# Altium schematic symbol library Detectors.SchLib: 109 symbols (part 5 of 5)
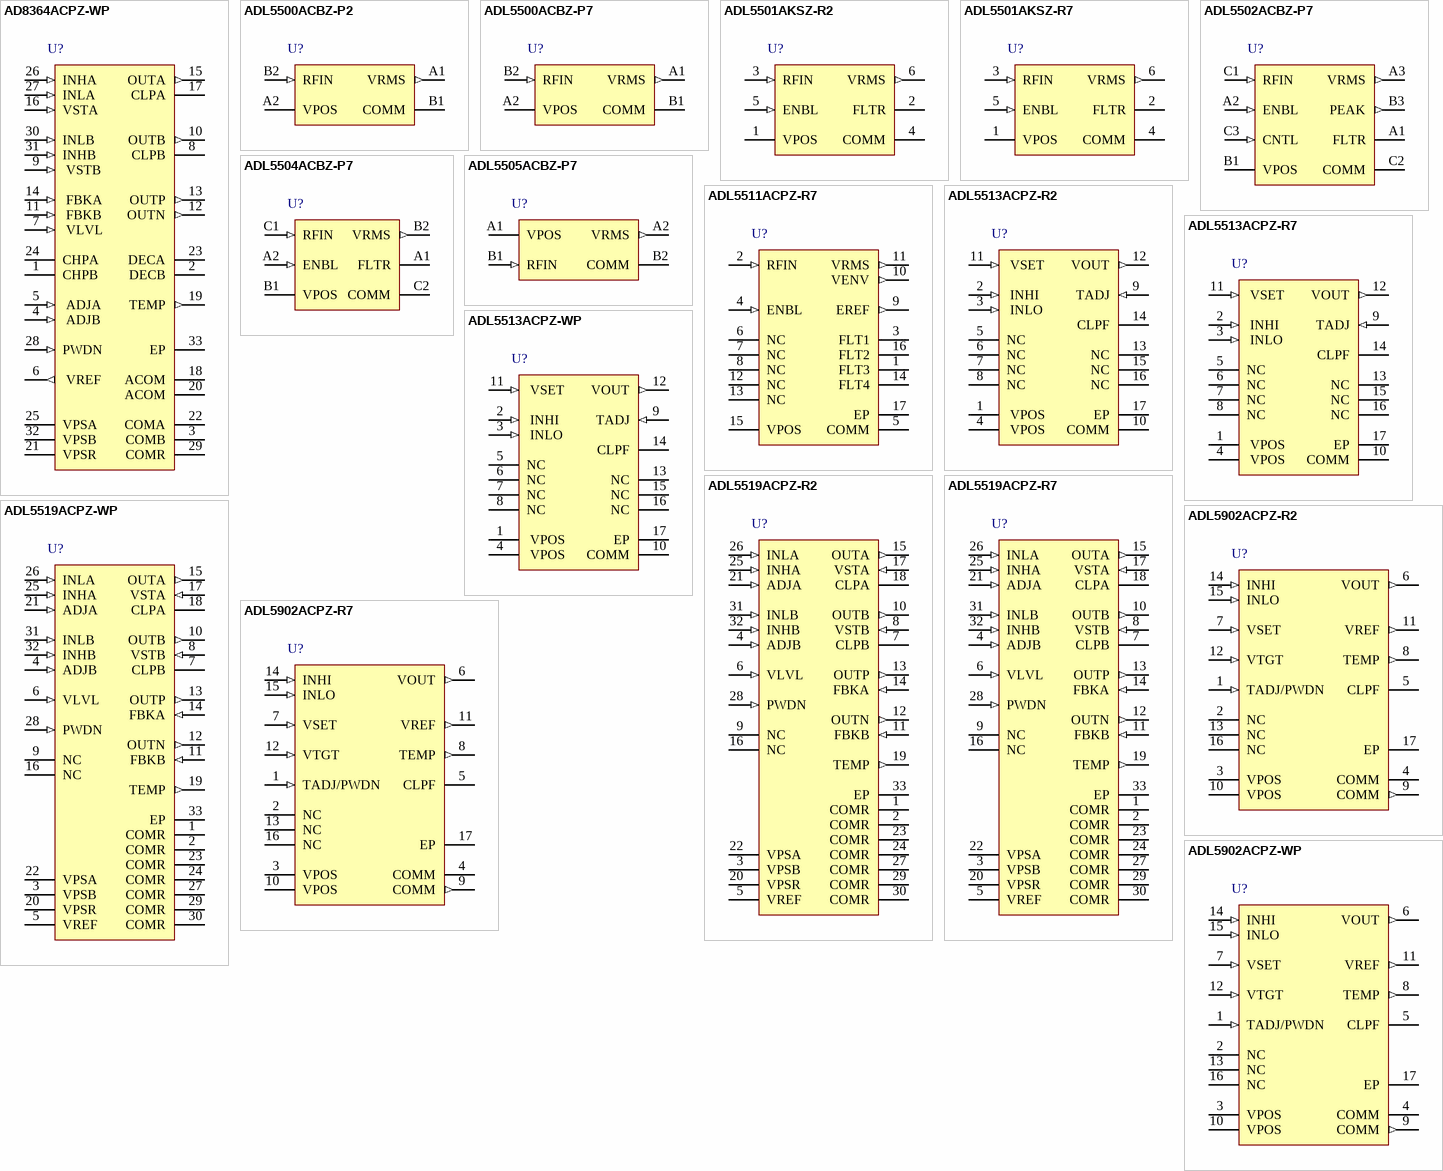
[diagram p7: symbols AD8364ACPZ-WP to ADL5902ACPZ-WP]

## ADL5502ACBZ-P7
designator U?
450 MHz to 6000 MHz Crest Factor Detector, 15µs Response Time, CB-8-3, Pb-Free, 3000 Reel; Product Description: Crest Factor Detector, Improved RMS Performance; RF Frequency (MHz): 6GHz; Dynamic Range (dB): 30dB; Temp Stability (dB): 250mdB; Voltage Supply (V): 2.5 to 3.3; Supply Current: 3mA; Output Response: Linear in Voltage; DatasheetVersion: Rev. A; PackageVersion: 102208-A; PackageReference: CB-8-3; PackageDescription: 8-Ball Wafer Level Chip Scale Package [WLCSP]; Response Time (ns typ): 15µs; ComponentLink1Description: Manufacturer URL; ComponentLink1URL: www.analog.com; ComponentLink2Description: Datasheet; ComponentLink2URL: http://www.analog.com/static/imported-files/data_sheets/ADL5502.pdf; ComponentLink3Description: Package Specification; ComponentLink3URL: http://www.analog.com/static/imported-files/packages/PKG_PDF/WLCSP(CB)/CB_8_3.pdf
footprint ADI-CB-8-3 (BGA, 8-Leads, Body 1.46x1.46mm, Pitch 0.5mm)
pins: A1 FLTR "Modulation Filter Pin. Connection for an external capacitor to lower the corner frequency of the modulation filter.", A2 ENBL (in) "Enable Pin. Connect pin to VS for normal operation. Connect pin to ground for disable mode.", A3 VRMS (out) "RMS Output Pin. Rail-to-rail voltage output with limited current drive capability. The output has an internal 100 O series resistance. High resistive loads and low capacitance loads are recommended to preserve output swing and allow fast response.", B1 VPOS (power) "Supply Voltage Pin. Operational range 2.5 V to 3.3 V.", B3 PEAK (out) "Envelope Peak Output. Voltage output for peak-hold function, with limited current drive capability. The output has an internal 100 O series resistance. Low capacitance loads are recommended to allow for envelope tracking and fast response time.", C1 RFIN (in) "Signal Input Pin. Internally ac-coupled after internal termination resistance. Nominal 500 ohm input impedance.", C2 COMM (power) "Device Ground Pin.", C3 CNTL (in) "Control Pin. Connect pin to ground for peak-hold mode. Connect pin to VS for reset mode (tracking envelope). To measure the peak of a waveform, the control pin must be briefly set to high (reset mode for >1 us) to start at a known state."

## ADL5504ACBZ-P7
designator U?
450 MHz to 6000 MHzTruPwr Detector, 3µs Response Time, CB-6-8, Pb-Free, 3000 Reel; Product Description: Improved RMS Performance, Reduced Size; RF Frequency (MHz): 6GHz; Dynamic Range (dB): 30dB; Temp Stability (dB): 250mdB; Voltage Supply (V): 2.5 to 3.3; Supply Current: 1.8mA; Output Response: Linear in Voltage; DatasheetVersion: Rev. A; PackageVersion: 081709-A; PackageReference: CB-6-8; PackageDescription: 6-Ball Wafer Level Chip Scale Package [WLCSP]; Response Time (ns typ): 3µs; ComponentLink1Description: Manufacturer URL; ComponentLink1URL: www.analog.com; ComponentLink2Description: Datasheet; ComponentLink2URL: http://www.analog.com/static/imported-files/data_sheets/ADL5504.pdf; ComponentLink3Description: Package Specification; ComponentLink3URL: http://www.analog.com/static/imported-files/packages/PKG_PDF/WLCSP(CB)/CB_6_8.pdf
footprint ADI-CB-6-8 (BGA, 6-Leads, Body 1.4x1mm, Pitch 0.4mm)
pins: A1 FLTR "Modulation Filter. Connect an external capacitor to this pin to lower the corner frequency of the modulation filter.", A2 ENBL (in) "Enable. Connect this pin to VS for normal operation. Connect this pin to ground for disable mode.", B1 VPOS (power) "Supply Voltage.", B2 VRMS (out) "RMS Output. This pin is a rail-to-rail voltage output with limited current drive capability. The output has an internal 100 ohm series resistance. High resistive loads and low capacitance loads are recommended to preserve output swing and allow fast resp", C1 RFIN (in) "Signal Input. This pin is internally ac-coupled after internal termination resistance. The nominal input impedance is 500 ohm.", C2 COMM (power) "Device Ground."

## ADL5505ACBZ-P7
designator U?
450 MHz to 6000 MHzTruPwr Detector, 3µs Response Time, CB-4-6, Pb-Free, 3000 Reel; Product Description: Improved RMS Performance, Reduced Size; RF Frequency (MHz): 6GHz; Dynamic Range (dB): 30dB; Temp Stability (dB): 250mdB; Voltage Supply (V): 2.5 to 3.3; Supply Current: 1.8mA; Output Response: Linear in Voltage; DatasheetVersion: Rev. A; PackageVersion: 2011; PackageReference: CB-4-6; PackageDescription: 4-Ball Wafer Level Chip Scale Package [WLCSP]; Response Time (ns typ): 3µs; ComponentLink1Description: Manufacturer URL; ComponentLink1URL: www.analog.com; ComponentLink2Description: Datasheet; ComponentLink2URL: http://www.analog.com/static/imported-files/data_sheets/ADL5505.pdf; ComponentLink3Description: Package Specification; ComponentLink3URL: http://www.analog.com/static/imported-files/data_sheets/ADL5505.pdf
footprint ADI-CB-4-6 (BGA, 4-Leads, Body 0.79x0.79mm, Pitch 0.4mm)
pins: A1 VPOS (power) "Supply Voltage. The operational range is 2.5 V to 3.3 V.", A2 VRMS (out) "RMS Output. This pin is a rail-to-rail voltage output with limited current drive capability. The output has an internal 100 ohm series resistance. High resistive loads and low capacitance loads are recommended to preserve output swing and allow fast resp", B1 RFIN (in) "Signal Input. This pin is internally ac-coupled after internal termination resistance. The nominal input impedance is 500.", B2 COMM (power) "Device Ground."

## ADL5511ACPZ-R7
designator U?
DC to 6 GHz Envelope and TruPwr RMS Detector, CP-16-22, Pb-Free, 54 Tube; Product Description: Crest factor detector with rms and envelope outputs; RF Frequency (MHz): 6GHz; Dynamic Range (dB): 47dB; Temp Stability (dB): 250mdB; Response Time (ns typ): 10µs; Voltage Supply (V): 4.75 to 5.25; Supply Current: 21.5mA; Output Response: Linear in Voltage; DatasheetVersion: Rev. 0; PackageVersion: 111808-A; PackageReference: CP-16-22; PackageDescription: 16-Lead Lead Frame Chip Scale Package [LFCSP_WQ]; Code_JEDEC: MO-220-WEED; ComponentLink1Description: Manufacturer URL; ComponentLink1URL: www.analog.com; ComponentLink2Description: Datasheet; ComponentLink2URL: http://www.analog.com/static/imported-files/data_sheets/ADL5511.pdf; ComponentLink3Description: Package Specification; ComponentLink3URL: http://www.analog.com/static/imported-files/packages/PKG_PDF/LFCSP(CP)/CP-16/CP_16_22.pdf
footprint ADI-CP-16-22_N (QFN, 16-Leads, Body 3x3mm, Pitch 0.5mm, Thermal Pad 1.75x1.75mm, IPC Medium Density)
footprint ADI-CP-16-22_L (QFN, 16-Leads, Body 3x3mm, Pitch 0.5mm, Thermal Pad 1.75x1.75mm, IPC High Density)
footprint ADI-CP-16-22_M (QFN, 16-Leads, Body 3x3mm, Pitch 0.5mm, Thermal Pad 1.75x1.75mm, IPC Low Density)
pins: 1 FLT3 "External Envelope Filter. [see datasheet]", 2 RFIN (in) "RF Input. RFIN should be externally ac-coupled. RFIN has a nominal input impedance of 250 Ohm. [see datasheet]", 3 FLT1 "External Envelope Filter. A capacitor to ground on this pin can be used to reduce the nominal minimum input frequency. The capacitance on this pin helps to reduce any residual RF carrier presence on the EREF output pin. [see datasheet]", 4 ENBL (in) "Device Enable/Disable. A logic high on this pin enables the device. A logic low on this pin disables the device.", 5 COMM (power) "Device Ground. Connect to a low impedance ground plane.", 6 NC "Do not connect to these pins.", 7 NC "Do not connect to these pins.", 8 NC "Do not connect to these pins.", 9 EREF (out) "Reference Voltage for Envelope Output. The nominal value is 1.1 V.", 10 VENV (out) "Envelope Output. The voltage on this pin represents the envelope of the input signal and is referred to EREF. VENV can source a current of up to 15 mA. Capacitive loading should not exceed 10 pF to achieve the specified envelope bandwidth. [see datasheet", 11 VRMS (out) "RMS Output Pin. This voltage is ground referenced and has a nominal swing of 0 V to 3.8 V. VRMS has a linear- in-V/V transfer function with a nominal slope of 2 V/V.", 12 NC "Do not connect to these pins.", 13 NC "Do not connect to these pins.", 14 FLT4 "RMS Averaging Capacitor. Connect between FLT4 and VPOS.", 15 VPOS (power) "Supply Voltage Pin. Operational range is 4.75 V to 5.25 V with a supply current of 21.5 mA.", 16 FLT2 "External Envelope Filter. [see datasheet]", 17 EP (power) "Exposed Pad. The exposed pad should be connected to both thermal and electrical grounds."

## ADL5513ACPZ-R2
designator U?
1 MHz to 4 GHz, 80 dB Logarithmic Detector/Controller, 20ns Response Time, CP-16-3, Pb-Free, 250 Reel; Product Description: 125°C Operation, Broadband; RF Frequency (MHz): 1 to 4000; Dynamic Range (dB): 80dB; Temp Stability (dB): 500mdB; Voltage Supply (V): 2.7 to 5.5; Supply Current: 31mA; DatasheetVersion: Rev. 0; PackageVersion: Jan-2005; PackageReference: CP-16-3; PackageDescription: 16-Lead Lead Frame Chip Scale Package [LFCSP_VQ]; Response Time (ns typ): 20ns; Code_JEDEC: MO-220-VEED-2; ComponentLink1Description: Manufacturer URL; ComponentLink1URL: www.analog.com; ComponentLink2Description: Datasheet; ComponentLink2URL: http://www.analog.com/static/imported-files/data_sheets/ADL5513.pdf; ComponentLink3Description: Package Specification; ComponentLink3URL: http://www.analog.com/static/imported-files/packages/PKG_PDF/LFCSP(CP)/CP_16_3.pdf
footprint ADI-CP-16-3_N (QFN, 16-Leads, Body 3x3mm, Pitch 0.5mm, Thermal Pad 1.5x1.5mm, IPC Medium Density)
footprint ADI-CP-16-3_L (QFN, 16-Leads, Body 3x3mm, Pitch 0.5mm, Thermal Pad 1.5x1.5mm, IPC High Density)
footprint ADI-CP-16-3_M (QFN, 16-Leads, Body 3x3mm, Pitch 0.5mm, Thermal Pad 1.5x1.5mm, IPC Low Density)
pins: 1  VPOS (power) "Positive Supply Voltage, 2.7 V to 5.5 V", 2  INHI (in) "RF Input. AC-coupled RF input", 3  INLO (in) "RF Common for INHI. AC-coupled RF common.", 4  VPOS (power) "Positive Supply Voltage, 2.7 V to 5.5 V", 5 NC "No Connect. These pins can be left open or be soldered to a low impedance ground plane.", 6 NC "No Connect. These pins can be left open or be soldered to a low impedance ground plane.", 7 NC "No Connect. These pins can be left open or be soldered to a low impedance ground plane.", 8 NC "No Connect. These pins can be left open or be soldered to a low impedance ground plane.", 9  TADJ (in) "Temperature Compensation Adjustment. Frequency-dependent temperature compensation is set by applying a specified voltage to the pin. The TADJ pin has dual functionality  as a power-down pin, PWDN. Applying a voltage of VPOS - 0.3 V disables the device.", 10  COMM (power) "Device Common.", 11  VSET (in) "Setpoint Input for Operation in Controller Mode. To operate in RSSI mode short VSET to VOUT.", 12  VOUT (out) "Logarithmic/Error Output.", 13 NC "No Connect. These pins can be left open or be soldered to a low impedance ground plane.", 14  CLPF "Loop Filter Capacitor Pin. In measurement mode, this capacitor pin sets the pulse response time and video bandwidth. In controller mode, the capacitance on this node sets the response time of the error amplifier/integrator.", 15 NC "No Connect. These pins can be left open or be soldered to a low impedance ground plane.", 16 NC "No Connect. These pins can be left open or be soldered to a low impedance ground plane.", 17 EP (power) "Internally connected to COMM; solder to a low impedance ground plane."

## ADL5513ACPZ-R7
designator U?
1 MHz to 4 GHz, 80 dB Logarithmic Detector/Controller, 20ns Response Time, CP-16-3, Pb-Free, 1500 Reel; Product Description: 125°C Operation, Broadband; RF Frequency (MHz): 1 to 4000; Dynamic Range (dB): 80dB; Temp Stability (dB): 500mdB; Voltage Supply (V): 2.7 to 5.5; Supply Current: 31mA; DatasheetVersion: Rev. 0; PackageVersion: Jan-2005; PackageReference: CP-16-3; PackageDescription: 16-Lead Lead Frame Chip Scale Package [LFCSP_VQ]; Response Time (ns typ): 20ns; Code_JEDEC: MO-220-VEED-2; ComponentLink1Description: Manufacturer URL; ComponentLink1URL: www.analog.com; ComponentLink2Description: Datasheet; ComponentLink2URL: http://www.analog.com/static/imported-files/data_sheets/ADL5513.pdf; ComponentLink3Description: Package Specification; ComponentLink3URL: http://www.analog.com/static/imported-files/packages/PKG_PDF/LFCSP(CP)/CP_16_3.pdf
footprint ADI-CP-16-3_N (QFN, 16-Leads, Body 3x3mm, Pitch 0.5mm, Thermal Pad 1.5x1.5mm, IPC Medium Density)
footprint ADI-CP-16-3_L (QFN, 16-Leads, Body 3x3mm, Pitch 0.5mm, Thermal Pad 1.5x1.5mm, IPC High Density)
footprint ADI-CP-16-3_M (QFN, 16-Leads, Body 3x3mm, Pitch 0.5mm, Thermal Pad 1.5x1.5mm, IPC Low Density)
pins: 1  VPOS (power) "Positive Supply Voltage, 2.7 V to 5.5 V", 2  INHI (in) "RF Input. AC-coupled RF input", 3  INLO (in) "RF Common for INHI. AC-coupled RF common.", 4  VPOS (power) "Positive Supply Voltage, 2.7 V to 5.5 V", 5 NC "No Connect. These pins can be left open or be soldered to a low impedance ground plane.", 6 NC "No Connect. These pins can be left open or be soldered to a low impedance ground plane.", 7 NC "No Connect. These pins can be left open or be soldered to a low impedance ground plane.", 8 NC "No Connect. These pins can be left open or be soldered to a low impedance ground plane.", 9  TADJ (in) "Temperature Compensation Adjustment. Frequency-dependent temperature compensation is set by applying a specified voltage to the pin. The TADJ pin has dual functionality  as a power-down pin, PWDN. Applying a voltage of VPOS - 0.3 V disables the device.", 10  COMM (power) "Device Common.", 11  VSET (in) "Setpoint Input for Operation in Controller Mode. To operate in RSSI mode short VSET to VOUT.", 12  VOUT (out) "Logarithmic/Error Output.", 13 NC "No Connect. These pins can be left open or be soldered to a low impedance ground plane.", 14  CLPF "Loop Filter Capacitor Pin. In measurement mode, this capacitor pin sets the pulse response time and video bandwidth. In controller mode, the capacitance on this node sets the response time of the error amplifier/integrator.", 15 NC "No Connect. These pins can be left open or be soldered to a low impedance ground plane.", 16 NC "No Connect. These pins can be left open or be soldered to a low impedance ground plane.", 17 EP (power) "Internally connected to COMM; solder to a low impedance ground plane."

## ADL5513ACPZ-WP
designator U?
1 MHz to 4 GHz, 80 dB Logarithmic Detector/Controller, 20ns Response Time, CP-16-3, Pb-Free, 50 Tray; Product Description: 125°C Operation, Broadband; RF Frequency (MHz): 1 to 4000; Dynamic Range (dB): 80dB; Temp Stability (dB): 500mdB; Voltage Supply (V): 2.7 to 5.5; Supply Current: 31mA; DatasheetVersion: Rev. 0; PackageVersion: Jan-2005; PackageReference: CP-16-3; PackageDescription: 16-Lead Lead Frame Chip Scale Package [LFCSP_VQ]; Response Time (ns typ): 20ns; Code_JEDEC: MO-220-VEED-2; ComponentLink1Description: Manufacturer URL; ComponentLink1URL: www.analog.com; ComponentLink2Description: Datasheet; ComponentLink2URL: http://www.analog.com/static/imported-files/data_sheets/ADL5513.pdf; ComponentLink3Description: Package Specification; ComponentLink3URL: http://www.analog.com/static/imported-files/packages/PKG_PDF/LFCSP(CP)/CP_16_3.pdf
footprint ADI-CP-16-3_N (QFN, 16-Leads, Body 3x3mm, Pitch 0.5mm, Thermal Pad 1.5x1.5mm, IPC Medium Density)
footprint ADI-CP-16-3_L (QFN, 16-Leads, Body 3x3mm, Pitch 0.5mm, Thermal Pad 1.5x1.5mm, IPC High Density)
footprint ADI-CP-16-3_M (QFN, 16-Leads, Body 3x3mm, Pitch 0.5mm, Thermal Pad 1.5x1.5mm, IPC Low Density)
pins: 1  VPOS (power) "Positive Supply Voltage, 2.7 V to 5.5 V", 2  INHI (in) "RF Input. AC-coupled RF input", 3  INLO (in) "RF Common for INHI. AC-coupled RF common.", 4  VPOS (power) "Positive Supply Voltage, 2.7 V to 5.5 V", 5 NC "No Connect. These pins can be left open or be soldered to a low impedance ground plane.", 6 NC "No Connect. These pins can be left open or be soldered to a low impedance ground plane.", 7 NC "No Connect. These pins can be left open or be soldered to a low impedance ground plane.", 8 NC "No Connect. These pins can be left open or be soldered to a low impedance ground plane.", 9  TADJ (in) "Temperature Compensation Adjustment. Frequency-dependent temperature compensation is set by applying a specified voltage to the pin. The TADJ pin has dual functionality  as a power-down pin, PWDN. Applying a voltage of VPOS - 0.3 V disables the device.", 10  COMM (power) "Device Common.", 11  VSET (in) "Setpoint Input for Operation in Controller Mode. To operate in RSSI mode short VSET to VOUT.", 12  VOUT (out) "Logarithmic/Error Output.", 13 NC "No Connect. These pins can be left open or be soldered to a low impedance ground plane.", 14  CLPF "Loop Filter Capacitor Pin. In measurement mode, this capacitor pin sets the pulse response time and video bandwidth. In controller mode, the capacitance on this node sets the response time of the error amplifier/integrator.", 15 NC "No Connect. These pins can be left open or be soldered to a low impedance ground plane.", 16 NC "No Connect. These pins can be left open or be soldered to a low impedance ground plane.", 17 EP (power) "Internally connected to COMM; solder to a low impedance ground plane."

## ADL5519ACPZ-R2
designator U?
1 MHz to 10 GHz, 62 dB Dual Log Detector/Controller, 6ns Response Time, CP-32-8, Pb-Free, 250 Reel; Product Description: Dual-Channel AD8317; RF Frequency (MHz): 1 to 10000; Dynamic Range (dB): 62dB; Temp Stability (dB): 500mdB; Voltage Supply (V): 3.3 to 5.5; Supply Current: 56mA; DatasheetVersion: Rev. A; PackageVersion: 080306-A; PackageReference: CP-32-8; PackageDescription: 32-Lead Lead Frame Chip Scale Package [LFCSP_VQ]; Response Time (ns typ): 6ns; Code_JEDEC: MO-220-VHHD-2; ComponentLink1Description: Manufacturer URL; ComponentLink1URL: www.analog.com; ComponentLink2Description: Datasheet; ComponentLink2URL: http://www.analog.com/static/imported-files/data_sheets/ADL5519.pdf; ComponentLink3Description: Package Specification; ComponentLink3URL: http://www.analog.com/static/imported-files/packages/3743763361381667927CP_32_8.pdf
footprint ADI-CP-32-8_N (QFN, 32-Leads, Body 5x5mm, Pitch 0.5mm, Thermal Pad 2.7x2.7mm, IPC Medium Density)
footprint ADI-CP-32-8_L (QFN, 32-Leads, Body 5x5mm, Pitch 0.5mm, Thermal Pad 2.7x2.7mm, IPC High Density)
footprint ADI-CP-32-8_M (QFN, 32-Leads, Body 5x5mm, Pitch 0.5mm, Thermal Pad 2.7x2.7mm, IPC Low Density)
pins: 1 COMR (power) "Connect via low impedance to common", 2 COMR (power) "Connect via low impedance to common", 3 VPSB (power) "Positive Supply for Channel B. Apply 3.3 V to 5.5 V supply voltage.", 4 ADJB (in) "Dual-Function Pin: Temperature Adjust Pin for Channel B and Power-Down Interface for OUTB.", 5 VREF (power) "Voltage Reference (1.15 V).", 6 VLVL (in) "DC Common-Mode Adjust for Difference Output.", 7 CLPB "Loop Filter Pin for Channel B.", 8 VSTB (in) "Setpoint Control Input for Channel B.", 9 NC "No Connect.", 10 OUTB (out) "Output Voltage for Channel B.", 11 FBKB (in) "Difference Op Amp Feedback Pin for OUTN Op Amp.", 12 OUTN (out) "Difference Output (OUTB - OUTA + VLVL).", 13 OUTP (out) "Difference Output (OUTA - OUTB + VLVL).", 14 FBKA (in) "Difference Op Amp Feedback Pin for OUTP Op Amp.", 15 OUTA (out) "Output Voltage for Channel A.", 16 NC "No Connect.", 17 VSTA (in) "Setpoint Control Input for Channel A.", 18 CLPA "Loop Filter Pin for Channel A.", 19 TEMP (out) "Temperature Sensor Output (1.3 V with 4.5 mV/°C Slope).", 20 VPSR (power) "Positive Supply for Difference Outputs and Temperature Sensor. Apply 3.3 V to 5.5 V supply voltage", 21 ADJA (in) "Dual-Function Pin: Temperature Adjust Pin for Channel A and Power-Down Interface for OUTA.", 22 VPSA (power) "Positive Supply for Channel A. Apply 3.3 V to 5.5 V supply voltage.", 23 COMR (power) "Connect via low impedance to common.", 24 COMR (power) "Connect via low impedance to common.", 25 INHA (in) "AC-Coupled RF Input for Channel A.", 26 INLA (in) "AC-Coupled RF Common for Channel A", 27 COMR (power) "Connect via low impedance to common.", 28 PWDN (in) "Power-Down for Difference Output and Temperature Sensor.", 29 COMR (power) "Connect via low impedance to common.", 30 COMR (power) "Connect via low impedance to common.", 31 INLB (in) "AC-Coupled RF Common for Channel B.", 32 INHB (in) "AC-Coupled RF Input for Channel B.", 33 EP (power) "Internally connected to COMR."

## ADL5519ACPZ-R7
designator U?
1 MHz to 10 GHz, 62 dB Dual Log Detector/Controller, 6ns Response Time, CP-32-8, Pb-Free, 1500 Reel; Product Description: Dual-Channel AD8317; RF Frequency (MHz): 1 to 10000; Dynamic Range (dB): 62dB; Temp Stability (dB): 500mdB; Voltage Supply (V): 3.3 to 5.5; Supply Current: 56mA; DatasheetVersion: Rev. A; PackageVersion: 080306-A; PackageReference: CP-32-8; PackageDescription: 32-Lead Lead Frame Chip Scale Package [LFCSP_VQ]; Response Time (ns typ): 6ns; Code_JEDEC: MO-220-VHHD-2; ComponentLink1Description: Manufacturer URL; ComponentLink1URL: www.analog.com; ComponentLink2Description: Datasheet; ComponentLink2URL: http://www.analog.com/static/imported-files/data_sheets/ADL5519.pdf; ComponentLink3Description: Package Specification; ComponentLink3URL: http://www.analog.com/static/imported-files/packages/3743763361381667927CP_32_8.pdf
footprint ADI-CP-32-8_N (QFN, 32-Leads, Body 5x5mm, Pitch 0.5mm, Thermal Pad 2.7x2.7mm, IPC Medium Density)
footprint ADI-CP-32-8_L (QFN, 32-Leads, Body 5x5mm, Pitch 0.5mm, Thermal Pad 2.7x2.7mm, IPC High Density)
footprint ADI-CP-32-8_M (QFN, 32-Leads, Body 5x5mm, Pitch 0.5mm, Thermal Pad 2.7x2.7mm, IPC Low Density)
pins: 1 COMR (power) "Connect via low impedance to common", 2 COMR (power) "Connect via low impedance to common", 3 VPSB (power) "Positive Supply for Channel B. Apply 3.3 V to 5.5 V supply voltage.", 4 ADJB (in) "Dual-Function Pin: Temperature Adjust Pin for Channel B and Power-Down Interface for OUTB.", 5 VREF (power) "Voltage Reference (1.15 V).", 6 VLVL (in) "DC Common-Mode Adjust for Difference Output.", 7 CLPB "Loop Filter Pin for Channel B.", 8 VSTB (in) "Setpoint Control Input for Channel B.", 9 NC "No Connect.", 10 OUTB (out) "Output Voltage for Channel B.", 11 FBKB (in) "Difference Op Amp Feedback Pin for OUTN Op Amp.", 12 OUTN (out) "Difference Output (OUTB - OUTA + VLVL).", 13 OUTP (out) "Difference Output (OUTA - OUTB + VLVL).", 14 FBKA (in) "Difference Op Amp Feedback Pin for OUTP Op Amp.", 15 OUTA (out) "Output Voltage for Channel A.", 16 NC "No Connect.", 17 VSTA (in) "Setpoint Control Input for Channel A.", 18 CLPA "Loop Filter Pin for Channel A.", 19 TEMP (out) "Temperature Sensor Output (1.3 V with 4.5 mV/°C Slope).", 20 VPSR (power) "Positive Supply for Difference Outputs and Temperature Sensor. Apply 3.3 V to 5.5 V supply voltage", 21 ADJA (in) "Dual-Function Pin: Temperature Adjust Pin for Channel A and Power-Down Interface for OUTA.", 22 VPSA (power) "Positive Supply for Channel A. Apply 3.3 V to 5.5 V supply voltage.", 23 COMR (power) "Connect via low impedance to common.", 24 COMR (power) "Connect via low impedance to common.", 25 INHA (in) "AC-Coupled RF Input for Channel A.", 26 INLA (in) "AC-Coupled RF Common for Channel A", 27 COMR (power) "Connect via low impedance to common.", 28 PWDN (in) "Power-Down for Difference Output and Temperature Sensor.", 29 COMR (power) "Connect via low impedance to common.", 30 COMR (power) "Connect via low impedance to common.", 31 INLB (in) "AC-Coupled RF Common for Channel B.", 32 INHB (in) "AC-Coupled RF Input for Channel B.", 33 EP (power) "Internally connected to COMR."

## ADL5519ACPZ-WP
designator U?
1 MHz to 10 GHz, 62 dB Dual Log Detector/Controller, 6ns Response Time, CP-32-8, Pb-Free, 36 Tray; Product Description: Dual-Channel AD8317; RF Frequency (MHz): 1 to 10000; Dynamic Range (dB): 62dB; Temp Stability (dB): 500mdB; Voltage Supply (V): 3.3 to 5.5; Supply Current: 56mA; DatasheetVersion: Rev. A; PackageVersion: 080306-A; PackageReference: CP-32-8; PackageDescription: 32-Lead Lead Frame Chip Scale Package [LFCSP_VQ]; Response Time (ns typ): 6ns; Code_JEDEC: MO-220-VHHD-2; ComponentLink1Description: Manufacturer URL; ComponentLink1URL: www.analog.com; ComponentLink2Description: Datasheet; ComponentLink2URL: http://www.analog.com/static/imported-files/data_sheets/ADL5519.pdf; ComponentLink3Description: Package Specification; ComponentLink3URL: http://www.analog.com/static/imported-files/packages/3743763361381667927CP_32_8.pdf
footprint ADI-CP-32-8_N (QFN, 32-Leads, Body 5x5mm, Pitch 0.5mm, Thermal Pad 2.7x2.7mm, IPC Medium Density)
footprint ADI-CP-32-8_L (QFN, 32-Leads, Body 5x5mm, Pitch 0.5mm, Thermal Pad 2.7x2.7mm, IPC High Density)
footprint ADI-CP-32-8_M (QFN, 32-Leads, Body 5x5mm, Pitch 0.5mm, Thermal Pad 2.7x2.7mm, IPC Low Density)
pins: 1 COMR (power) "Connect via low impedance to common", 2 COMR (power) "Connect via low impedance to common", 3 VPSB (power) "Positive Supply for Channel B. Apply 3.3 V to 5.5 V supply voltage.", 4 ADJB (in) "Dual-Function Pin: Temperature Adjust Pin for Channel B and Power-Down Interface for OUTB.", 5 VREF (power) "Voltage Reference (1.15 V).", 6 VLVL (in) "DC Common-Mode Adjust for Difference Output.", 7 CLPB "Loop Filter Pin for Channel B.", 8 VSTB (in) "Setpoint Control Input for Channel B.", 9 NC "No Connect.", 10 OUTB (out) "Output Voltage for Channel B.", 11 FBKB (in) "Difference Op Amp Feedback Pin for OUTN Op Amp.", 12 OUTN (out) "Difference Output (OUTB - OUTA + VLVL).", 13 OUTP (out) "Difference Output (OUTA - OUTB + VLVL).", 14 FBKA (in) "Difference Op Amp Feedback Pin for OUTP Op Amp.", 15 OUTA (out) "Output Voltage for Channel A.", 16 NC "No Connect.", 17 VSTA (in) "Setpoint Control Input for Channel A.", 18 CLPA "Loop Filter Pin for Channel A.", 19 TEMP (out) "Temperature Sensor Output (1.3 V with 4.5 mV/°C Slope).", 20 VPSR (power) "Positive Supply for Difference Outputs and Temperature Sensor. Apply 3.3 V to 5.5 V supply voltage", 21 ADJA (in) "Dual-Function Pin: Temperature Adjust Pin for Channel A and Power-Down Interface for OUTA.", 22 VPSA (power) "Positive Supply for Channel A. Apply 3.3 V to 5.5 V supply voltage.", 23 COMR (power) "Connect via low impedance to common.", 24 COMR (power) "Connect via low impedance to common.", 25 INHA (in) "AC-Coupled RF Input for Channel A.", 26 INLA (in) "AC-Coupled RF Common for Channel A", 27 COMR (power) "Connect via low impedance to common.", 28 PWDN (in) "Power-Down for Difference Output and Temperature Sensor.", 29 COMR (power) "Connect via low impedance to common.", 30 COMR (power) "Connect via low impedance to common.", 31 INLB (in) "AC-Coupled RF Common for Channel B.", 32 INHB (in) "AC-Coupled RF Input for Channel B.", 33 EP (power) "Internally connected to COMR."

## ADL5902ACPZ-R2
designator U?
50 MHz to 9 GHz 65 dB TruPwr Detector, 3µs Response Time, CP-16-10, Pb-Free, 250 Reel; Product Description: Single-ended drive, Pin-compatible w/ AD8363; operation to 125°C; RF Frequency (MHz): 9GHz; Dynamic Range (dB): 65dB; Temp Stability (dB): 300mdB; Voltage Supply (V): 4.5 to 5.5; Supply Current: 73mA; Output Response: Linear in dB; DatasheetVersion: Rev. A; PackageVersion: 010606-0; PackageReference: CP-16-10; PackageDescription: 16-Lead Lead Frame Chip Scale Package [LFCSP_VQ]; Response Time (ns typ): 3µs; Code_JEDEC: MO-220-VGGC; ComponentLink1Description: Manufacturer URL; ComponentLink1URL: www.analog.com; ComponentLink2Description: Datasheet; ComponentLink2URL: http://www.analog.com/static/imported-files/data_sheets/ADL5902.pdf; ComponentLink3Description: Package Specification; ComponentLink3URL: http://www.analog.com/static/imported-files/packages/PKG_PDF/LFCSP(CP)/CP_16_10.pdf
footprint ADI-CP-16-10_N (QFN, 16-Leads, Body 4x4mm, Pitch 0.65mm, Thermal Pad 2.35x2.35mm, IPC Medium Density)
footprint ADI-CP-16-10_L (QFN, 16-Leads, Body 4x4mm, Pitch 0.65mm, Thermal Pad 2.35x2.35mm, IPC High Density)
footprint ADI-CP-16-10_M (QFN, 16-Leads, Body 4x4mm, Pitch 0.65mm, Thermal Pad 2.35x2.35mm, IPC Low Density)
pins: 1 TADJ/PWDN (in) "This is a dual function pin used for controlling the amount of nonlinear intercept temperature compensation at voltages <2.5 V and/or for shutting down the device at voltages >4 V. [see datasheet]", 2 NC "No Connect. Do not connect this pin.", 3 VPOS (power) "Supply for the Device. Connect this pin to a 5 V power supply. Pin 3 and Pin 10 are not internally connected; therefore, both must connect to the source.", 4 COMM (power) "System Common Connection. Connect these pins via low impedance to system common. The exposed paddle is also COMM and should have both a good thermal and good electrical connection to ground.", 5 CLPF "Connection for RMS Averaging Capacitor. Connect a ground-referenced capacitor to this pin. A resistor can be connected in series with this capacitor to modify loop stability and response time. See Figure 43 for an equivalent circuit.", 6 VOUT (out) "Output. In measurement mode, this pin is connected to VSET. In controller mode, this pin can be used to drive a gain control element. See Figure 43 for an equivalent circuit.", 7 VSET (in) "The voltage applied to this pin sets the decibel value of the required RF input voltage that results in zero current flow in the loop integrating capacitor pin, CLPF. [see datasheet]", 8 TEMP (out) "Temperature Sensor Output of 1.4 V at 25°C with a Coefficient of 5 mV/°C. See Figure 38 for an equivalent circuit.", 9 COMM (out) "System Common Connection. Connect these pins via low impedance to system common. The exposed paddle is also COMM and should have both a good thermal and good electrical connection to ground.", 10 VPOS (power) "Supply for the Device. Connect this pin to a 5 V power supply. Pin 3 and Pin 10 are not internally connected; therefore, both must connect to the source.", 11 VREF (out) "General-Purpose Reference Voltage Output of 2.3 V at 25°C. See Figure 39 for an equivalent circuit.", 12 VTGT (in) "The voltage applied to this pin determines the target power at the input of the RF squaring circuit. The intercept voltage is proportional to the voltage applied to this pin. [see datasheet]", 13 NC "No Connect. Do not connect this pin.", 14 INHI (in) "RF Input. The RF input signal is normally ac-coupled to this pin through a coupling capacitor. See Figure 37 for an equivalent circuit.", 15 INLO (in) "RF Input Common. This pin is normally ac-coupled to ground through a coupling capacitor. See Figure 37 for an equivalent circuit.", 16 NC "No Connect. Do not connect this pin.", 17 EP (power) "System Common Connection. Connect these pins via low impedance to system common. The exposed paddle is also COMM and should have both a good thermal and good electrical connection to ground."

## ADL5902ACPZ-R7
designator U?
50 MHz to 9 GHz 65 dB TruPwr Detector, 3µs Response Time, CP-16-10, Pb-Free, 1500 Reel; Product Description: Single-ended drive, Pin-compatible w/ AD8363; operation to 125°C; RF Frequency (MHz): 9GHz; Dynamic Range (dB): 65dB; Temp Stability (dB): 300mdB; Voltage Supply (V): 4.5 to 5.5; Supply Current: 73mA; Output Response: Linear in dB; DatasheetVersion: Rev. A; PackageVersion: 010606-0; PackageReference: CP-16-10; PackageDescription: 16-Lead Lead Frame Chip Scale Package [LFCSP_VQ]; Response Time (ns typ): 3µs; Code_JEDEC: MO-220-VGGC; ComponentLink1Description: Manufacturer URL; ComponentLink1URL: www.analog.com; ComponentLink2Description: Datasheet; ComponentLink2URL: http://www.analog.com/static/imported-files/data_sheets/ADL5902.pdf; ComponentLink3Description: Package Specification; ComponentLink3URL: http://www.analog.com/static/imported-files/packages/PKG_PDF/LFCSP(CP)/CP_16_10.pdf
footprint ADI-CP-16-10_N (QFN, 16-Leads, Body 4x4mm, Pitch 0.65mm, Thermal Pad 2.35x2.35mm, IPC Medium Density)
footprint ADI-CP-16-10_L (QFN, 16-Leads, Body 4x4mm, Pitch 0.65mm, Thermal Pad 2.35x2.35mm, IPC High Density)
footprint ADI-CP-16-10_M (QFN, 16-Leads, Body 4x4mm, Pitch 0.65mm, Thermal Pad 2.35x2.35mm, IPC Low Density)
pins: 1 TADJ/PWDN (in) "This is a dual function pin used for controlling the amount of nonlinear intercept temperature compensation at voltages <2.5 V and/or for shutting down the device at voltages >4 V. [see datasheet]", 2 NC "No Connect. Do not connect this pin.", 3 VPOS (power) "Supply for the Device. Connect this pin to a 5 V power supply. Pin 3 and Pin 10 are not internally connected; therefore, both must connect to the source.", 4 COMM (power) "System Common Connection. Connect these pins via low impedance to system common. The exposed paddle is also COMM and should have both a good thermal and good electrical connection to ground.", 5 CLPF "Connection for RMS Averaging Capacitor. Connect a ground-referenced capacitor to this pin. A resistor can be connected in series with this capacitor to modify loop stability and response time. See Figure 43 for an equivalent circuit.", 6 VOUT (out) "Output. In measurement mode, this pin is connected to VSET. In controller mode, this pin can be used to drive a gain control element. See Figure 43 for an equivalent circuit.", 7 VSET (in) "The voltage applied to this pin sets the decibel value of the required RF input voltage that results in zero current flow in the loop integrating capacitor pin, CLPF. [see datasheet]", 8 TEMP (out) "Temperature Sensor Output of 1.4 V at 25°C with a Coefficient of 5 mV/°C. See Figure 38 for an equivalent circuit.", 9 COMM (out) "System Common Connection. Connect these pins via low impedance to system common. The exposed paddle is also COMM and should have both a good thermal and good electrical connection to ground.", 10 VPOS (power) "Supply for the Device. Connect this pin to a 5 V power supply. Pin 3 and Pin 10 are not internally connected; therefore, both must connect to the source.", 11 VREF (out) "General-Purpose Reference Voltage Output of 2.3 V at 25°C. See Figure 39 for an equivalent circuit.", 12 VTGT (in) "The voltage applied to this pin determines the target power at the input of the RF squaring circuit. The intercept voltage is proportional to the voltage applied to this pin. [see datasheet]", 13 NC "No Connect. Do not connect this pin.", 14 INHI (in) "RF Input. The RF input signal is normally ac-coupled to this pin through a coupling capacitor. See Figure 37 for an equivalent circuit.", 15 INLO (in) "RF Input Common. This pin is normally ac-coupled to ground through a coupling capacitor. See Figure 37 for an equivalent circuit.", 16 NC "No Connect. Do not connect this pin.", 17 EP (power) "System Common Connection. Connect these pins via low impedance to system common. The exposed paddle is also COMM and should have both a good thermal and good electrical connection to ground."

## ADL5902ACPZ-WP
designator U?
50 MHz to 9 GHz 65 dB TruPwr Detector, 3µs Response Time, CP-16-10, Pb-Free, 64 Tray; Product Description: Single-ended drive, Pin-compatible w/ AD8363; operation to 125°C; RF Frequency (MHz): 9GHz; Dynamic Range (dB): 65dB; Temp Stability (dB): 300mdB; Voltage Supply (V): 4.5 to 5.5; Supply Current: 73mA; Output Response: Linear in dB; DatasheetVersion: Rev. A; PackageVersion: 010606-0; PackageReference: CP-16-10; PackageDescription: 16-Lead Lead Frame Chip Scale Package [LFCSP_VQ]; Response Time (ns typ): 3µs; Code_JEDEC: MO-220-VGGC; ComponentLink1Description: Manufacturer URL; ComponentLink1URL: www.analog.com; ComponentLink2Description: Datasheet; ComponentLink2URL: http://www.analog.com/static/imported-files/data_sheets/ADL5902.pdf; ComponentLink3Description: Package Specification; ComponentLink3URL: http://www.analog.com/static/imported-files/packages/PKG_PDF/LFCSP(CP)/CP_16_10.pdf
footprint ADI-CP-16-10_N (QFN, 16-Leads, Body 4x4mm, Pitch 0.65mm, Thermal Pad 2.35x2.35mm, IPC Medium Density)
footprint ADI-CP-16-10_L (QFN, 16-Leads, Body 4x4mm, Pitch 0.65mm, Thermal Pad 2.35x2.35mm, IPC High Density)
footprint ADI-CP-16-10_M (QFN, 16-Leads, Body 4x4mm, Pitch 0.65mm, Thermal Pad 2.35x2.35mm, IPC Low Density)
pins: 1 TADJ/PWDN (in) "This is a dual function pin used for controlling the amount of nonlinear intercept temperature compensation at voltages <2.5 V and/or for shutting down the device at voltages >4 V. [see datasheet]", 2 NC "No Connect. Do not connect this pin.", 3 VPOS (power) "Supply for the Device. Connect this pin to a 5 V power supply. Pin 3 and Pin 10 are not internally connected; therefore, both must connect to the source.", 4 COMM (power) "System Common Connection. Connect these pins via low impedance to system common. The exposed paddle is also COMM and should have both a good thermal and good electrical connection to ground.", 5 CLPF "Connection for RMS Averaging Capacitor. Connect a ground-referenced capacitor to this pin. A resistor can be connected in series with this capacitor to modify loop stability and response time. See Figure 43 for an equivalent circuit.", 6 VOUT (out) "Output. In measurement mode, this pin is connected to VSET. In controller mode, this pin can be used to drive a gain control element. See Figure 43 for an equivalent circuit.", 7 VSET (in) "The voltage applied to this pin sets the decibel value of the required RF input voltage that results in zero current flow in the loop integrating capacitor pin, CLPF. [see datasheet]", 8 TEMP (out) "Temperature Sensor Output of 1.4 V at 25°C with a Coefficient of 5 mV/°C. See Figure 38 for an equivalent circuit.", 9 COMM (out) "System Common Connection. Connect these pins via low impedance to system common. The exposed paddle is also COMM and should have both a good thermal and good electrical connection to ground.", 10 VPOS (power) "Supply for the Device. Connect this pin to a 5 V power supply. Pin 3 and Pin 10 are not internally connected; therefore, both must connect to the source.", 11 VREF (out) "General-Purpose Reference Voltage Output of 2.3 V at 25°C. See Figure 39 for an equivalent circuit.", 12 VTGT (in) "The voltage applied to this pin determines the target power at the input of the RF squaring circuit. The intercept voltage is proportional to the voltage applied to this pin. [see datasheet]", 13 NC "No Connect. Do not connect this pin.", 14 INHI (in) "RF Input. The RF input signal is normally ac-coupled to this pin through a coupling capacitor. See Figure 37 for an equivalent circuit.", 15 INLO (in) "RF Input Common. This pin is normally ac-coupled to ground through a coupling capacitor. See Figure 37 for an equivalent circuit.", 16 NC "No Connect. Do not connect this pin.", 17 EP (power) "System Common Connection. Connect these pins via low impedance to system common. The exposed paddle is also COMM and should have both a good thermal and good electrical connection to ground."